# Altium footprint library dsPIC Click v1.4.PcbLib: 14 footprints
Each footprint in its own frame and in the unit in brackets; x right, y up, seen from the top. Pads: shape width x height; smd on the part's side, far side on the other; paste and mask are expansions set on the pad; w line width, h text height; cw(c..) or ccw(c..) is an arc to the next point about the centre after c.
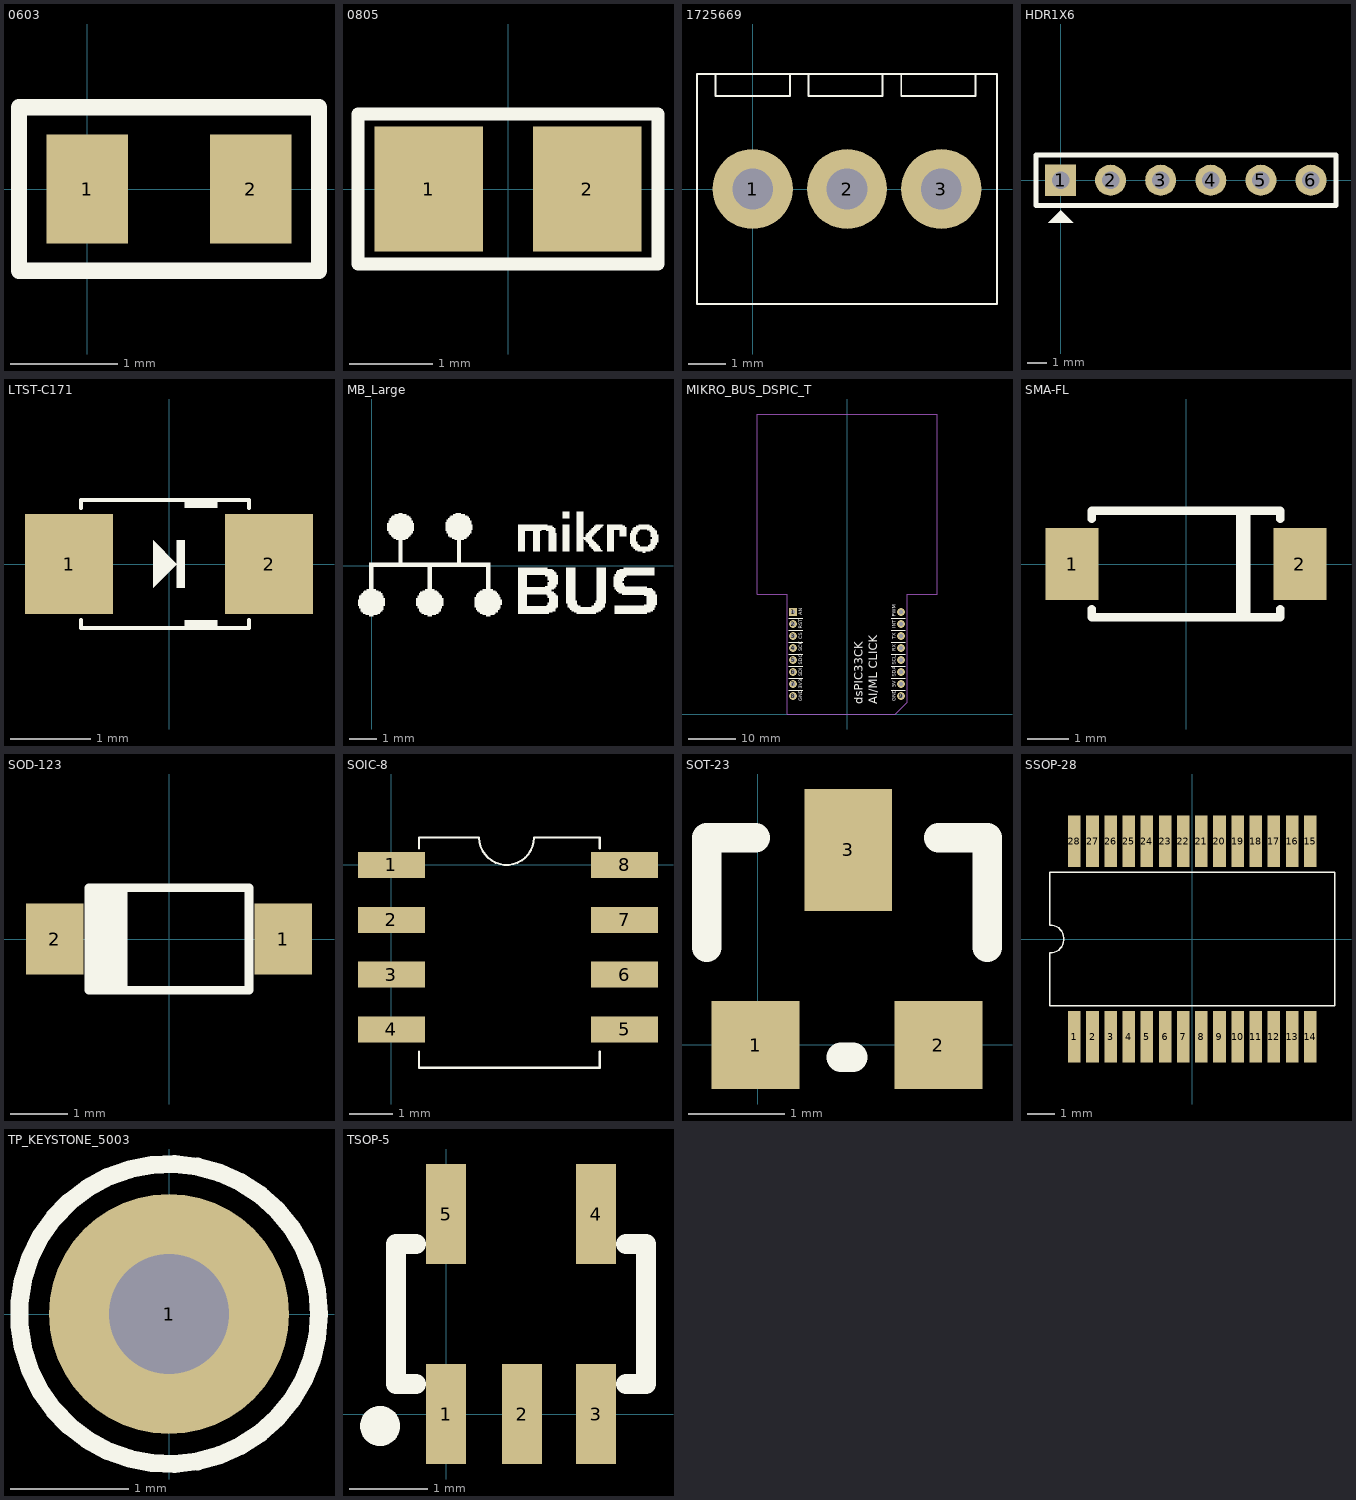
[diagram p0: the footprints below, top view; thin cyan lines are the x and y axes]

## 0603 [mil]
pads (2):
  rect 30x40 smd: 1(0,0) 2(60,0)
Top Overlay:
  lines w6: -25,-30 85,-30 85,30 -25,30 -25,-30

## 0805 [mm]
height 0.45
pads (2):
  rect 1.3x1.5 smd: 1(-0.95,0) 2(0.95,0)
Top Overlay:
  lines w0.152: -1.8,-0.9 1.8,-0.9 1.8,0.9 -1.8,0.9 -1.8,-0.9

## 1725669 [mil] "Connector; Terminal; 3 Position, 2.45mm"
height 137.8
pads (3):
  round 85 hole 43.31: 1(0,0) 2(100,0) 3(200,0)
Top Overlay:
  lines w1.97: -39.37,122.05 -39.37,98.43 39.37,98.43 39.37,122.05 ; 59.06,122.05 59.06,98.43 137.8,98.43 137.8,122.05 ; 157.48,122.05 157.48,98.43 236.22,98.43 236.22,122.05 ; -59.06,-122.05 -59.06,122.05 259.06,122.05 259.06,-122.05 -59.06,-122.05
3D body: height 334.65, standoff -137.8, extent -59.84,-123.03 260.63,121.06

## HDR1X6 [mil]
height 751.97
pads (6):
  rect 62x62 hole 35: 1(0,0)
  round 62 hole 35: 2(100,0) 3(200,0) 4(300,0) 5(400,0) 6(500,0)
Top Overlay:
  region: 0,-60 -25,-85 25,-85
  lines w10: -49,-50 550,-50 550,50 -49,50 -49,-50

## LTST-C171 [mm] "led, 0805"
height 0.8
pads (2):
  rect 1.1x1.25 smd: 1(-1.25,0) 2(1.25,0)
Top Overlay:
  region: 0.2,-0.7 0.6,-0.7 0.6,-0.8 0.2,-0.8
  region: 0.2,0.8 0.6,0.8 0.6,0.7 0.2,0.7
  region: -0.2,0.3 -0.2,-0.3 0.1,0 0.1,-0.3 0.2,-0.3 0.2,0.3 0.1,0.3 0.1,0
  lines w0.05: -1.1,-0.7 -1.1,-0.8 1,-0.8 1,-0.7 ; -1.1,0.7 -1.1,0.8 1,0.8 1,0.7
3D body: height 1.1, standoff 0, extent -1,-0.625 1,0.625

## MB_Large [mm]
height 2.4
Top Overlay:
  drawing of 10 lines, arcs and shapes, not listed

## MIKRO_BUS_DSPIC_T [mil]
height 47.24
pads (16):
  rect 65x65 hole 35: 1(-450,850)
  round 65 hole 35: 2(-450,750) 3(-450,650) 4(-450,550) 5(-450,450) 6(-450,350) 7(-450,250) 8(-450,150) 9(450,150) 10(450,250) 11(450,350) 12(450,450) 13(450,550) 14(450,650) 15(450,750) 16(450,850)
Top Overlay:
  lines w8: -485,200 -370,200 ; -485,300 -370,300 ; -485,400 -370,400 ; -485,500 -370,500 ; -485,600 -370,600 ; -485,700 -370,700 ; -485,800 -370,800 ; 370,200 485,200 ; 370,300 485,300 ; 370,400 485,400 ; 370,500 485,500 ; 370,600 485,600 ; 370,700 485,700 ; 370,800 485,800
  text "PWM" at 405,810 h30
  text "CS" at -375,625 h30
  text "TX" at 405,625 h30
  text "RX" at 405,525 h30
  text "SCL" at 405,410 h30
  text "SDA" at 405,310 h30
  text "GND" at 405,107 h30
  text "SDO" at -375,410 h30
  text "RST" at -375,710 h30
  text "INT" at 405,715 h30
  text "SCK" at -375,525 h30
  text "AN" at -375,825 h30
  text "SDI" at -375,315 h30
  text "5V" at 405,225 h30
  text "3V3" at -375,210 h30
  text "GND" at -375,107 h30
  text "dsPIC33CK / AI/ML CLICK" at 275.43,80 h120
Bottom Overlay:
  lines w8: -497,100 -400,100 -400,900 -497,900 ; 497,100 400,100 400,900 497,900
  text "SCK" at -270,530 h35
  text "AN" at -300,830 h35
  text "TX" at 360,630 h35
  text "RX" at 360,530 h35
  text "5V" at 360,230 h35
  text "GND" at 360,130 h35
  text "PWM" at 360,830 h35
  text "RST" at -270,730 h35
  text "SDA" at 360,330 h35
  text "SDO" at -270,430 h35
  text "3V3" at -270,230 h35
  text "GND" at -267,130 h35
  text "CS" at -305,630 h35
  text "SDI" at -280,330 h35
  text "INT" at 360,730 h35
  text "SCL" at 360,430 h35
Mechanical 15:
  lines w4: -750,1000 -750,2500 750,2500 750,1000 500,1000 500,98.43 401.57,0 397.64,0 -500,0 -500,1000 -750,1000
3D body: height 121.26, standoff -358.66, extent 392.52,100 507.48,400
3D body: height 121.26, standoff -358.66, extent -507.97,100 -393,400
3D body: height 121.26, standoff -358.66, extent 392.52,400 507.48,900
3D body: height 121.26, standoff -358.66, extent -507.97,400 -393,900

## SMA-FL [mm]
height 1.4
pads (2):
  rect 1.3x1.76 smd: 1(-2.78,0) 2(2.78,0)
Top Overlay:
  lines w0.152: 1.3,-1.3 1.3,1.3 ; 1.4,-1.3 1.4,1.2 ; 1.5,-1.3 1.5,1.3
  lines w0.2: -2.3,-1.1 -2.3,-1.3 2.3,-1.3 2.3,-1.1 ; -2.3,1.1 -2.3,1.3 2.3,1.3 2.3,1.1
3D body: height 2.22, standoff 0, extent -2.5,-1.35 2.5,1.35

## SOD-123 [mm]
pads (2):
  rect 1x1.25 smd: 1(2,0) 2(-2,0)
Top Overlay:
  rectangle: -1.4,-0.9 -1.1,0.9
  lines w0.15: -1.2,-0.9 -1.2,0.9 ; -1.1,-0.9 -1.1,0.8 ; -1,-0.9 -1,0.9 ; -0.9,-0.9 -0.9,0.9 ; -0.8,-0.9 -0.8,0.9 ; -1.4,-0.9 1.4,-0.9 1.4,0.9 -1.4,0.9 -1.4,-0.9
3D body: height 1.25, standoff 0, extent -1.9,-0.8 1.9,0.8

## SOIC-8 [mm]
height 1.1
pads (8):
  rect 1.55x0.6 smd: 1(0,0) 2(0,-1.27) 3(0,-2.54) 4(0,-3.81) 5(5.4,-3.81) 6(5.4,-2.54) 7(5.4,-1.27) 8(5.4,0)
Top Overlay:
  lines w0.05: 0.635,-4.318 0.635,-4.699 4.826,-4.699 4.826,-4.318 ; 0.635,0.381 0.635,0.635 2.032,0.635 ccw(c2.667,0.635) 3.302,0.635 4.826,0.635 4.826,0.381
3D body: height 1.75, standoff 0, extent -0.5,-4.45 5.5,0.45

## SOT-23 [mil]
pads (3):
  rect 36x36 smd: 1(-1,-0.17) 2(74,-0.17)
  rect 36x50 smd: 3(37,79.83)
Top Overlay:
  lines w12: -21,39.83 -21,84.83 -1,84.83 ; 34,-5.17 39,-5.17 ; 74,84.83 94,84.83 94,39.83
3D body: height 47.24, standoff 0, extent -22.64,-6.88 95.47,91.54

## SSOP-28 [mm]
pads (28):
  rect 0.45x1.85 smd mask+0.08: 1(-4.225,-3.5) 2(-3.575,-3.5) 3(-2.925,-3.5) 4(-2.275,-3.5) 5(-1.625,-3.5) 6(-0.975,-3.5) 7(-0.325,-3.5) 8(0.325,-3.5) 9(0.975,-3.5) 10(1.625,-3.5) 11(2.275,-3.5) 12(2.925,-3.5) 13(3.575,-3.5) 14(4.225,-3.5) 15(4.225,3.5) 16(3.575,3.5) 17(2.925,3.5) 18(2.275,3.5) 19(1.625,3.5) 20(0.975,3.5) 21(0.325,3.5) 22(-0.325,3.5) 23(-0.975,3.5) 24(-1.625,3.5) 25(-2.275,3.5) 26(-2.925,3.5) 27(-3.575,3.5) 28(-4.225,3.5)
Top Overlay:
  lines w0.05: -5.1,-2.4 5.1,-2.4 5.1,2.4 -5.1,2.4 -5.1,0.5 cw(c-5.1,0) -5.1,-0.5 -5.1,-2.4
3D body: height 2.1, standoff 0, extent -5.1,-3.9 5.1,3.9

## TP_KEYSTONE_5003 [mil]
height 751.97
pads (1):
  round 80 hole 40: 1(0,0)
Top Overlay:
  circle w6: c0,0 r50

## TSOP-5 [mil]
pads (5):
  rect 20x50 smd: 1(0,0) 2(38,0) 3(75,0) 4(75,100) 5(0,100)
Top Overlay:
  circle w10: c-33,-6 r5
  lines w10: -15,15 -25,15 -25,85 -15,85 ; 90,15 100,15 100,85 90,85